# Altium schematic symbol library Altium_XTAL_3225.SchLib: 4 symbols
Pins are listed as number, name and electrical type; pins without a type are passive.

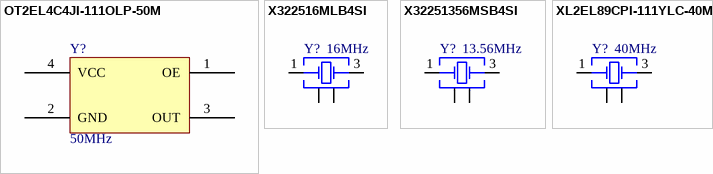
[diagram p0: symbols OT2EL4C4JI-111OLP-50M to XL2EL89CPI-111YLC-40M]

## OT2EL4C4JI-111OLP-50M
designator Y?, comment 50MHz
Oscillator 50MHz ±10ppm CMOS 1.8V~3.3V SMD3225-4P; Manufacturer: YXC Crystal Oscillators; Manufacturer Part Number: OT2EL4C4JI-111OLP-50M; Frequency Stability: ±20ppm; ComponentLink1Description: Datasheet; ComponentLink1URL: https://www.lcsc.com/datasheet/C5203552.pdf; Frequency: 50MHz; Frequency Tolerance: ±10ppm; LCSC Part #: C5203552; Mounting Technology: SMT; Operating Temperature Max: + 60 C; Operating Temperature Min: - 10 C; Package / Case: 3225; Packaging: Tape and Reel; Supplier 1: Mouser; Supplier 1 Part Number: N/A; Supplier 1 URL: N/A; Supplier 2: Digi-Key; Supplier 2 Part Number: N/A; Supplier 2 URL: N/A; Supplier 3: thegioiic; Supplier 3 Part Number: N/A; Supplier 3 URL: N/A; Value: 50MHz
footprint 3225 (Quartz Crystal, size 3225, body 3.4x2.7mm)
pins: 1 OE, 2 GND, 3 OUT, 4 VCC

## X322516MLB4SI
designator Y?, comment 16MHz
CRYSTAL 16MHz 9pF SMD; Manufacturer Part Number: X322516MLB4SI; Manufacturer: YXC Crystal Oscillators; Frequency Stability: ±10ppm; Frequency Tolerance: ±20ppm; Frequency: 16MHz; Load Capacitance: 9pF; Mounting Technology: SMT; Supplier 3 URL: N/A; ComponentLink1Description: Datasheet; ComponentLink1URL: https://www.mouser.com/datasheet/2/905/c_NX3225SA_e-1317523.pdf; Supplier 1 URL: N/A; Supplier 2 URL: N/A; Value: 16MHz; Operating Temperature Max: + 60 C; Operating Temperature Min: - 10 C; Package / Case: 3225; Packaging: Tape and Reel; Supplier 1: Mouser; Supplier 1 Part Number: N/A; Supplier 2: Digi-Key; Supplier 2 Part Number: N/A; Supplier 3: thegioiic; Supplier 3 Part Number: N/A; LCSC Part #: C13738
footprint 3225 (Quartz Crystal, size 3225, body 3.4x2.7mm)
pins: 1 Crystal, 2 GND, 3 Crystal, 4 GND

## X32251356MSB4SI
designator Y?, comment 13.56MHz
CRYSTAL 13.56MHz 20pF SMD; Manufacturer Part Number: X32251356MSB4SI; Manufacturer: YXC Crystal Oscillators; Frequency Stability: ±10ppm; Frequency Tolerance: ±20ppm; Frequency: 13.56MHz; Load Capacitance: 20pF; Mounting Technology: SMT; Supplier 3 URL: N/A; ComponentLink1Description: Datasheet; ComponentLink1URL: https://www.lcsc.com/datasheet/C21662.pdf; Supplier 1 URL: N/A; Supplier 2 URL: N/A; Value: 13.56MHz; Operating Temperature Max: + 60 C; Operating Temperature Min: - 10 C; Package / Case: 3225; Packaging: Tape and Reel; Supplier 1: Mouser; Supplier 1 Part Number: N/A; Supplier 2: Digi-Key; Supplier 2 Part Number: N/A; Supplier 3: thegioiic; Supplier 3 Part Number: N/A; LCSC Part #: C21662
footprint 3225 (Quartz Crystal, size 3225, body 3.4x2.7mm)
pins: 1 Crystal, 2 GND, 3 Crystal, 4 GND

## XL2EL89CPI-111YLC-40M
designator Y?, comment 40MHz
WE-XTAL Quartz Crystal, SMT, CFPX-180, 40MHz, +/-20ppm; Manufacturer Part Number: XL2EL89CPI-111YLC-40M; Manufacturer: YXC Crystal Oscillators; Load Capacitance: 15pF; Frequency Tolerance: +/-10ppm; Frequency Stability: +/-20ppm; Frequency: 40MHz; Mounting Technology: SMT; Supplier 3 URL: N/A; ComponentLink1Description: Datasheet; ComponentLink1URL: https://www.lcsc.com/datasheet/C5444549.pdf; Supplier 1 URL: N/A; Supplier 2 URL: N/A; Value: 40MHz; Operating Temperature Max: + 60 C; Operating Temperature Min: - 10 C; Package / Case: 3225; Packaging: Tape and Reel; Supplier 1: Mouser; Supplier 1 Part Number: N/A; Supplier 2: Digi-Key; Supplier 2 Part Number: N/A; Supplier 3: thegioiic; Supplier 3 Part Number: N/A; LCSC Part #: C5444549
footprint 3225 (Quartz Crystal, size 3225, body 3.4x2.7mm)
pins: 1 Crystal, 2 GND, 3 Crystal, 4 GND